# Altium footprint library PCP_ANT1.PcbLib: 13 footprints
Each footprint in its own frame and in the unit in brackets; x right, y up, seen from the top. Pads: shape width x height; smd on the part's side, far side on the other; paste and mask are expansions set on the pad; w line width, h text height; cw(c..) or ccw(c..) is an arc to the next point about the centre after c.
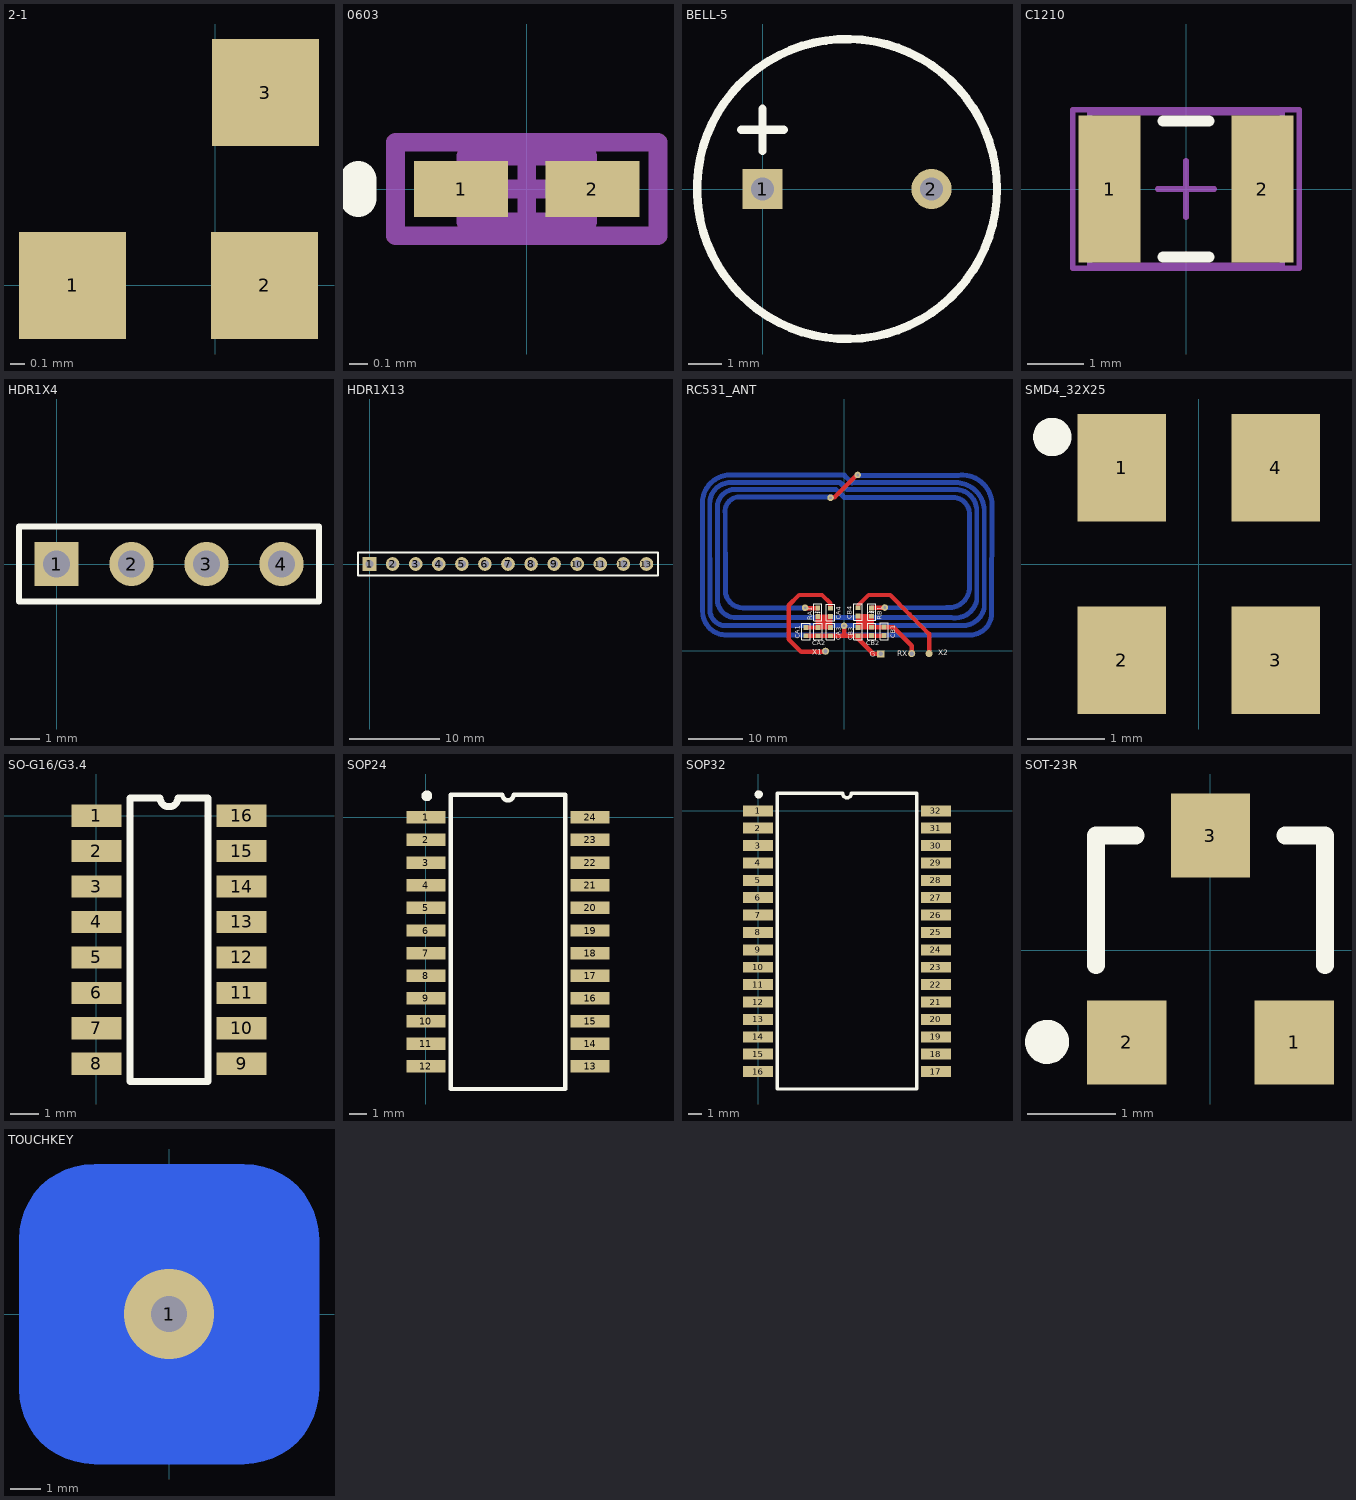
[diagram p0: the footprints below, top view; thin cyan lines are the x and y axes]

## 2-1 [mil]
pads (3):
  rect 30x30 smd: 1(-40,0) 2(13.78,0) 3(14,54)

## 0603 [mm]
pads (2):
  rect 0.5x0.3 smd: 1(-0.35,0) 2(0.35,0)
Top Overlay:
  lines w0.2: -0.9,-0.05 -0.9,0.05
Mechanical 13:
  lines w0.1: -0.325,-0.175 -0.325,0.175 0.325,0.175 0.325,-0.175 -0.325,-0.175
Mechanical 15:
  lines w0.1: -0.175,0 0.175,0 ; 0,-0.175 0,0.175 ; -0.7,-0.25 -0.7,0.25 0.7,0.25 0.7,-0.25 -0.7,-0.25
3D body: height 0.55, standoff 0, extent -0.325,-0.175 0.325,0.175

## BELL-5 [mm]
pads (2):
  rect 1.2x1.2 hole 0.7: 1(0,0)
  round 1.2 hole 0.7: 2(5.08,0)
Top Overlay:
  circle w0.254: c2.54,0 r4.51
  lines w0.254: -0.635,1.778 0.635,1.778 ; 0,1.143 0,2.413

## C1210 [mm]
pads (2):
  rect 1.1x2.6 smd: 1(-1.35,0) 2(1.35,0)
Top Overlay:
  lines w0.2: -0.4,-1.2 0.4,-1.2 ; -0.4,1.2 0.4,1.2
Mechanical 13:
  lines w0.1: -1.7,-1.35 -1.7,1.35 1.7,1.35 1.7,-1.35 -1.7,-1.35
Mechanical 15:
  lines w0.1: -0.5,0 0.5,0 ; 0,-0.5 0,0.5 ; -2,-1.4 -2,1.4 2,1.4 2,-1.4 -2,-1.4
3D body: height 1.3, standoff 0, extent -1.7,-1.35 1.7,1.35

## HDR1X4 [mm]
pads (4):
  rect 1.5x1.5 hole 0.9: 1(0,0)
  round 1.5 hole 0.9: 2(2.54,0) 3(5.08,0) 4(7.62,0)
Top Overlay:
  lines w0.2: -1.27,-1.27 8.89,-1.27 8.89,1.27 -1.27,1.27 -1.27,-1.27

## HDR1X13 [mm]
pads (13):
  rect 1.5x1.5 hole 0.9: 1(0,0)
  round 1.5 hole 0.9: 2(2.54,0) 3(5.08,0) 4(7.62,0) 5(10.16,0) 6(12.7,0) 7(15.24,0) 8(17.78,0) 9(20.32,0) 10(22.86,0) 11(25.4,0) 12(27.94,0) 13(30.48,0)
Top Overlay:
  lines w0.2: -1.27,-1.27 31.75,-1.27 31.75,1.27 0.635,1.27 -1.27,1.27 -1.27,-1.27

## RC531_ANT [mil]
pads (29):
  rect 35x35 smd: 1(-273.5,106.07) 1(-189.16,245.07) 1(-187.5,106.07) 1(-98.5,106.07) 1(-98.5,244.07) 1(100.86,106.49) 1(100.86,247.49) 1(198.86,107.49) 1(198.86,246.98) 1(288.86,108.49) 2(-273.5,166.07) 2(-189.16,305.07) 2(-187.5,166.07) 2(-98.5,166.07) 2(-98.5,304.07) 2(100.86,166.49) 2(100.86,307.49) 2(198.86,167.49) 2(198.86,306.98) 2(288.86,168.49)
  round 47.24 hole 19.68: 3(-280.14,307.49) 3(292.86,309.49) 4(-97.14,1099.54) 5(97.86,1263.54) 6(0,177.49)
  round 51.18 hole 31.5: 10(-133.24,-5) 13(487,-22)
  rect 51.18x51.18 hole 31.5: 11(264,-24)
  round 51.18 smd: 12(612,-22)
Top Layer:
  rectangle: -178.15,166.08 -109.15,244.08
  rectangle: 109.83,177.49 198.83,238.49
  lines w31.5: -277.72,305.07 -189.16,305.07 ; -273.5,106.07 0.44,106.07 ; -273.5,166.07 -98.5,166.07 -98.5,244.07 -188.16,244.07 -189.16,245.07 -189.16,167.73 -187.5,166.07 ; -143.24,-10 -308.24,-10 -398.24,80 -398.24,325 -323.24,400 -158.24,400 -98.14,339.9 -98.14,307.49 ; -84.14,1104.03 -67.4,1104.03 89.6,1261.03 ; -0.14,160.98 0,161.13 ; 0,106.51 0.44,106.07 ; 0,109 0,177.49 ; 0.44,160.68 0.44,106.07 ; 15,106.49 80.51,106.49 211,-24 264,-24 ; 100,308.35 100,323.24 176.76,400 331.76,400 471.76,260 612,119.76 612,-22 ; 198.35,247.49 100.86,247.49 100.86,166.49 102.86,168.49 288.86,168.49 341.86,168.49 353.27,168.49 487,34.76 487,-22 ; 198.86,167.49 198.86,246.98 ; 198.86,306.98 290.35,306.98 ; 288.86,108.49 286.86,106.49 100.86,106.49 0.86,106.49 0.44,106.07
Bottom Layer:
  lines w10: 292.86,309.49 293.36,308.98
  lines w31.5: 293.36,308.98 738.28,308.98
  lines w35.43: -280.14,307.49 -729.06,307.49 cw(c-729.01,432.82) -854.34,432.87 -855.18,987.03 cw(c-752.16,1002.01) -767.14,1105.03 -85.14,1105.03 ; -57.14,1159.03 -794.14,1159.03 ccw(c-783.23,1031.02) -911.24,1020.1 -911.51,355.56 ccw(c-781.25,368.28) -768.52,238.02 774.46,237.04 ccw(c800.31,392.01) 955.28,366.16 955.28,1014.54 ccw(c800.54,1004.28) 790.28,1159.03 59.86,1159.03 35.86,1159.03 ; -55.14,1157.03 -6.14,1108.03 ; -7.14,1263.03 -30.14,1263.03 -828.24,1263.03 ccw(c-819.96,1064.75) -1018.24,1056.47 -1017.94,279.05 ccw(c-848.09,281.9) -845.24,112.05 910.23,112.05 ccw(c906.14,267.33) 1061.42,271.42 1064.02,1072.03 ccw(c850.02,1047.03) 825.02,1261.03 89.6,1261.03 ; -0.51,1101.54 71.86,1101.54 788.28,1101.54 cw(c783.28,982.54) 902.28,977.54 902.28,440.98 cw(c754.28,456.98) 738.28,308.98 ; 1.86,1262.03 56.86,1207.03 ; 20.86,1159.03 -29.14,1209.03 -819.24,1209.03 ccw(c-817.46,1060.25) -966.24,1058.47 -965.94,283.56 ccw(c-850.76,294.53) -839.79,179.35 824.28,181.62 ccw(c852.2,338.7) 1009.28,310.79 1009.28,1014.54 ccw(c801.78,1001.04) 788.29,1208.54 58.86,1208.54
Top Overlay:
  lines w4: -207.16,270.07 -202.16,280.07 -192.16,270.07 -187.16,280.07 -177.16,270.07 -172.16,280.07 ; 180.86,271.98 185.86,281.98 195.86,271.98 200.86,281.98 210.86,271.98 215.86,281.98
  lines w6: -303.5,76.07 -303.5,196.07 -243.5,196.07 -243.5,76.07 -303.5,76.07 ; -219.16,215.07 -219.16,335.07 -159.16,335.07 -159.16,215.07 -219.16,215.07 ; -217.5,76.07 -217.5,196.07 -157.5,196.07 -157.5,76.07 -217.5,76.07 ; -128.5,76.07 -128.5,196.07 -68.5,196.07 -68.5,76.07 -128.5,76.07 ; -128.5,214.07 -128.5,334.07 -68.5,334.07 -68.5,214.07 -128.5,214.07 ; 70.86,76.49 70.86,196.49 130.86,196.49 130.86,76.49 70.86,76.49 ; 70.86,217.49 70.86,337.49 130.86,337.49 130.86,217.49 70.86,217.49 ; 168.86,77.49 168.86,197.49 228.86,197.49 228.86,77.49 168.86,77.49 ; 168.86,216.98 168.86,336.98 228.86,336.98 228.86,216.98 168.86,216.98 ; 258.86,78.49 258.86,198.49 318.86,198.49 318.86,78.49 258.86,78.49
  text "CA1" at -318.14,83.49 h35.43
  text "RA1" at -229.14,219.49 h35.43
  text "CA4" at -24.14,220.49 h35.43
  text "CA3" at -22.14,74.49 h35.43
  text "CB3" at 61.86,75.49 h35.43
  text "CB4" at 54.86,224.49 h35.43
  text "RB1" at 271.86,220.49 h35.43
  text "CB1" at 366.86,87.49 h35.43
  text "CA2" at -229.14,36.49 h35.43
  text "CB2" at 160.86,36.49 h35.43
  text "X1" at -228.24,-30 h39.37
  text "G" at 185,-46 h39.37
  text "X2" at 679,-34 h39.37
  text "RX" at 383,-40 h39.37
Bottom Overlay:
  lines w10: 1099.89,1295 -1058.24,1295 -1058.24,24.98 1100.79,24.98 1100.79,1294.1

## SMD4_32X25 [mm]
pads (4):
  rect 1.15x1.4 smd: 1(-1,1.25) 2(-1,-1.25) 3(1,-1.25) 4(1,1.25)
Top Overlay:
  circle w0.25: c-1.903,1.651 r0.125

## SO-G16/G3.4 [mm]
pads (16):
  rect 1.8x0.8 smd: 1(0,0) 2(0,-1.27) 3(0,-2.54) 4(0,-3.81) 5(0,-5.08) 6(0,-6.35) 7(0,-7.62) 8(0,-8.89) 9(5.2,-8.89) 10(5.2,-7.62) 11(5.2,-6.35) 12(5.2,-5.08) 13(5.2,-3.81) 14(5.2,-2.54) 15(5.2,-1.27) 16(5.2,0)
Top Overlay:
  lines w0.25: 1.2,-9.525 4,-9.525 4,0.635 2.917,0.635 cw(c2.6,0.635) 2.282,0.635 1.2,0.635 1.2,-9.525

## SOP24 [mm]
pads (24):
  rect 2.2x0.7 smd: 1(0,0) 2(0,-1.27) 3(0,-2.54) 4(0,-3.81) 5(0,-5.08) 6(0,-6.35) 7(0,-7.62) 8(0,-8.89) 9(0,-10.16) 10(0,-11.43) 11(0,-12.7) 12(0,-13.97) 13(9.2,-13.97) 14(9.2,-12.7) 15(9.2,-11.43) 16(9.2,-10.16) 17(9.2,-8.89) 18(9.2,-7.62) 19(9.2,-6.35) 20(9.2,-5.08) 21(9.2,-3.81) 22(9.2,-2.54) 23(9.2,-1.27) 24(9.2,0)
Top Overlay:
  circle w0.3: c0.05,1.2 r0.15
  lines w0.25: 1.4,-15.235 1.4,1.265 4.282,1.265 ccw(c4.6,1.265) 4.917,1.265 7.8,1.265 7.8,-15.235 1.4,-15.235

## SOP32 [mm]
pads (32):
  rect 2.2x0.8 smd: 1(0,0) 2(0,-1.27) 3(0,-2.54) 4(0,-3.81) 5(0,-5.08) 6(0,-6.35) 7(0,-7.62) 8(0,-8.89) 9(0,-10.16) 10(0,-11.43) 11(0,-12.7) 12(0,-13.97) 13(0,-15.24) 14(0,-16.51) 15(0,-17.78) 16(0,-19.05) 17(13,-19.05) 18(13,-17.78) 19(13,-16.51) 20(13,-15.24) 21(13,-13.97) 22(13,-12.7) 23(13,-11.43) 24(13,-10.16) 25(13,-8.89) 26(13,-7.62) 27(13,-6.35) 28(13,-5.08) 29(13,-3.81) 30(13,-2.54) 31(13,-1.27) 32(13,0)
Top Overlay:
  circle w0.3: c0.05,1.2 r0.15
  lines w0.25: 1.4,-20.325 11.6,-20.325 11.6,1.275 6.817,1.275 cw(c6.5,1.275) 6.182,1.275 1.4,1.275 1.4,-20.325

## SOT-23R [mm]
pads (3):
  rect 0.9x0.95 smd: 1(0.95,-1.048) 2(-0.95,-1.048) 3(0,1.302)
Top Overlay:
  circle w0.25: c-1.856,-1.041 r0.125
  lines w0.2: -1.3,-0.173 -1.3,1.302 -0.85,1.302 ; 0.85,1.302 1.3,1.302 1.3,-0.173

## TOUCHKEY [mm]
pads (1):
  rrect50% 10x10 smd far side: 1(0,0)
via 0,0 diameter 3 hole 1.2